# Altium schematic symbol library Header IDC.SchLib: 21 symbols
Pins are listed as number, name and electrical type; pins without a type are passive.

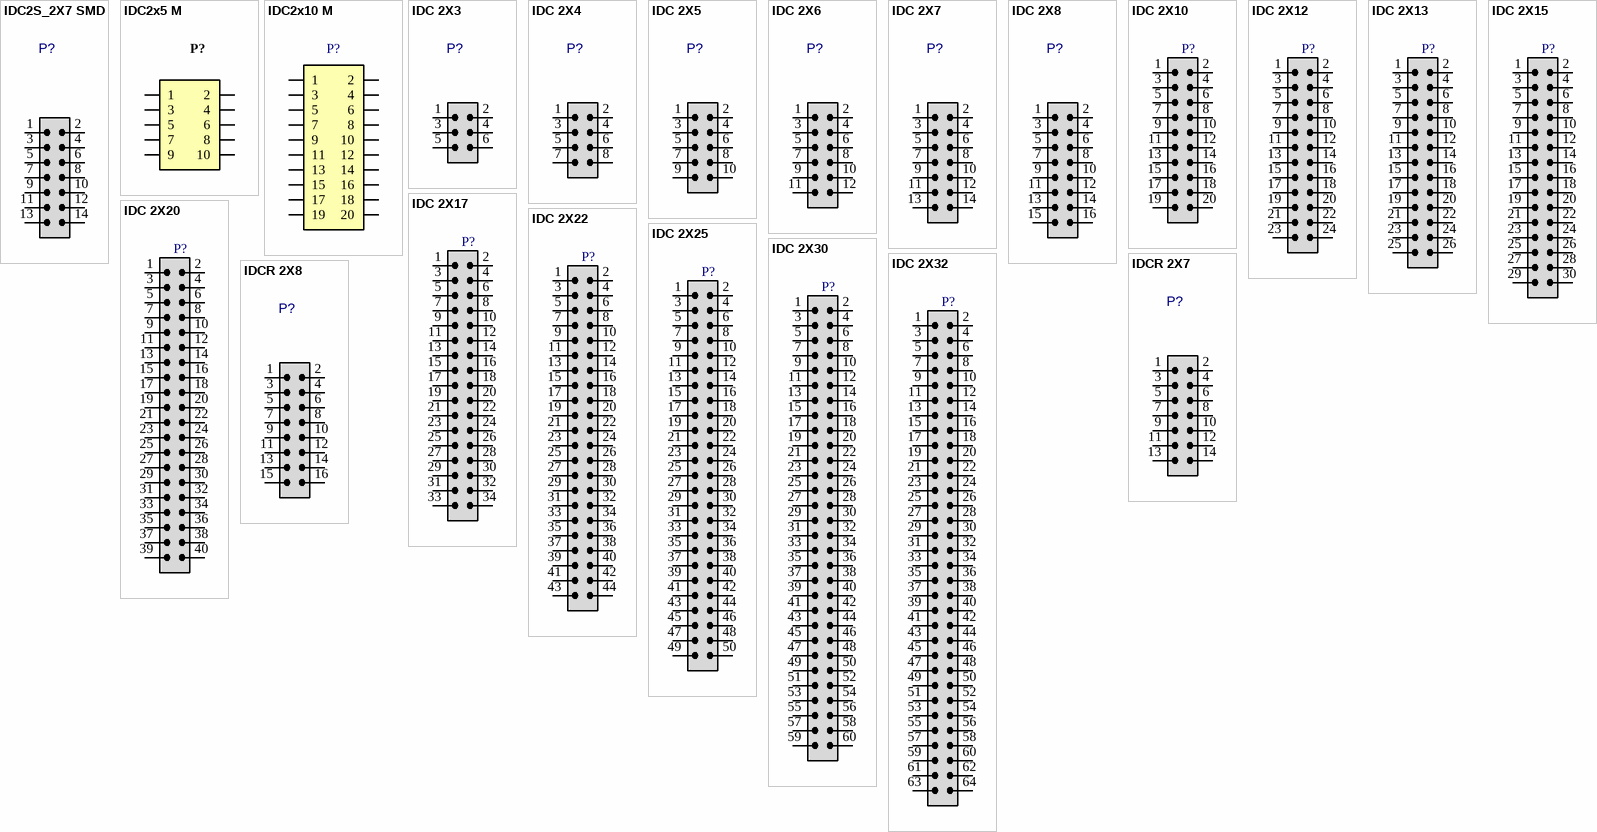
[diagram p0: symbols IDC2S_2X7 SMD to IDCR 2X8]

## IDC2S_2X7 SMD
designator P?
CONN, IDC, Male, pitch: 2.54mm, 14POS, SMD; DatasheetVersion: 2022
pins: 1, 2, 3, 4, 5, 6, 7, 8, 9, 10, 11, 12, 13, 14

## IDC2x5 M
designator P?
IDC, 2 X 5 Pin - Male; DatasheetVersion: 2022
pins: 1, 2, 3, 4, 5, 6, 7, 8, 9, 10

## IDC2x10 M
designator P?
IDC, 2 X 10 Pin - Male; DatasheetVersion: 2022
pins: 1, 2, 3, 4, 5, 6, 7, 8, 9, 10, 11, 12, 13, 14, 15, 16, 17, 18, 19, 20

## IDC 2X3
designator P?
CONN, IDC, Male, pitch: 2.54mm, 6POS; DatasheetVersion: 2022
pins: 1, 2, 3, 4, 5, 6

## IDC 2X4
designator P?
CONN, IDC, Male, pitch: 2.54mm, 8POS; DatasheetVersion: 2022
pins: 1, 2, 3, 4, 5, 6, 7, 8

## IDC 2X5
designator P?
CONN, IDC, Male, pitch: 2.54mm, 10POS; DatasheetVersion: 2022
pins: 1, 2, 3, 4, 5, 6, 7, 8, 9, 10

## IDC 2X6
designator P?
CONN, IDC, Male, pitch: 2.54mm, 12POS; DatasheetVersion: 2022
pins: 1, 2, 3, 4, 5, 6, 7, 8, 9, 10, 11, 12

## IDC 2X7
designator P?
CONN, IDC, Male, pitch: 2.54mm, 14POS; DatasheetVersion: 2022
pins: 1, 2, 3, 4, 5, 6, 7, 8, 9, 10, 11, 12, 13, 14

## IDC 2X8
designator P?
CONN, IDC, Male, pitch: 2.54mm, 16POS; DatasheetVersion: 2022
pins: 1, 2, 3, 4, 5, 6, 7, 8, 9, 10, 11, 12, 13, 14, 15, 16

## IDC 2X10
designator P?
CONN, IDC, Male, pitch: 2.54mm, 20POS; DatasheetVersion: 2022
pins: 1, 2, 3, 4, 5, 6, 7, 8, 9, 10, 11, 12, 13, 14, 15, 16, 17, 18, 19, 20

## IDC 2X12
designator P?
CONN, IDC, Male, pitch: 2.54mm, 24POS; DatasheetVersion: 2022
pins: 1, 2, 3, 4, 5, 6, 7, 8, 9, 10, 11, 12, 13, 14, 15, 16, 17, 18, 19, 20, 21, 22, 23, 24

## IDC 2X13
designator P?
CONN, IDC, Male, pitch: 2.54mm, 26POS; DatasheetVersion: 2022
pins: 1, 2, 3, 4, 5, 6, 7, 8, 9, 10, 11, 12, 13, 14, 15, 16, 17, 18, 19, 20, 21, 22, 23, 24, 25, 26

## IDC 2X15
designator P?
CONN, IDC, Male, pitch: 2.54mm, 30POS; DatasheetVersion: 2022
pins: 1, 2, 3, 4, 5, 6, 7, 8, 9, 10, 11, 12, 13, 14, 15, 16, 17, 18, 19, 20, 21, 22, 23, 24, 25, 26, 27, 28, 29, 30

## IDC 2X17
designator P?
CONN, IDC, Male, pitch: 2.54mm, 34POS; DatasheetVersion: 2022
pins: 1, 2, 3, 4, 5, 6, 7, 8, 9, 10, 11, 12, 13, 14, 15, 16, 17, 18, 19, 20, 21, 22, 23, 24, 25, 26, 27, 28, 29, 30, 31, 32, 33, 34

## IDC 2X20
designator P?
CONN, IDC, Male, pitch: 2.54mm, 40POS; DatasheetVersion: 2022
pins: 1, 2, 3, 4, 5, 6, 7, 8, 9, 10, 11, 12, 13, 14, 15, 16, 17, 18, 19, 20, 21, 22, 23, 24, 25, 26, 27, 28, 29, 30, 31, 32, 33, 34, 35, 36, 37, 38, 39, 40

## IDC 2X22
designator P?
CONN, IDC, Male, pitch: 2.54mm, 44POS; DatasheetVersion: 2022
pins: 1, 2, 3, 4, 5, 6, 7, 8, 9, 10, 11, 12, 13, 14, 15, 16, 17, 18, 19, 20, 21, 22, 23, 24, 25, 26, 27, 28, 29, 30, 31, 32, 33, 34, 35, 36, 37, 38, 39, 40, 41, 42, 43, 44

## IDC 2X25
designator P?
CONN, IDC, Male, pitch: 2.54mm, 50POS; DatasheetVersion: 2022
pins: 1, 2, 3, 4, 5, 6, 7, 8, 9, 10, 11, 12, 13, 14, 15, 16, 17, 18, 19, 20, 21, 22, 23, 24, 25, 26, 27, 28, 29, 30, 31, 32, 33, 34, 35, 36, 37, 38, 39, 40, 41, 42, 43, 44, 45, 46, 47, 48, 49, 50

## IDC 2X30
designator P?
CONN, IDC, Male, pitch: 2.54mm, 60POS; DatasheetVersion: 2022
pins: 1, 2, 3, 4, 5, 6, 7, 8, 9, 10, 11, 12, 13, 14, 15, 16, 17, 18, 19, 20, 21, 22, 23, 24, 25, 26, 27, 28, 29, 30, 31, 32, 33, 34, 35, 36, 37, 38, 39, 40, 41, 42, 43, 44, 45, 46, 47, 48, 49, 50, 51, 52, 53, 54, 55, 56, 57, 58, 59, 60

## IDC 2X32
designator P?
CONN, IDC, Male, pitch: 2.54mm, 64POS; DatasheetVersion: 2022
pins: 1, 2, 3, 4, 5, 6, 7, 8, 9, 10, 11, 12, 13, 14, 15, 16, 17, 18, 19, 20, 21, 22, 23, 24, 25, 26, 27, 28, 29, 30, 31, 32, 33, 34, 35, 36, 37, 38, 39, 40, 41, 42, 43, 44, 45, 46, 47, 48, 49, 50, 51, 52, 53, 54, 55, 56, 57, 58, 59, 60, 61, 62, 63, 64

## IDCR 2X7
designator P?
CONN, IDC, Male, pitch: 2.54mm, 14POS, RightAngle; DatasheetVersion: 2022
pins: 1, 2, 3, 4, 5, 6, 7, 8, 9, 10, 11, 12, 13, 14

## IDCR 2X8
designator P?
CONN, IDC, Male, pitch: 2.54mm, 16POS, RightAngle; DatasheetVersion: 2022
pins: 1, 2, 3, 4, 5, 6, 7, 8, 9, 10, 11, 12, 13, 14, 15, 16